# EAGLE library part PUMH9 (library cruz_technologies)
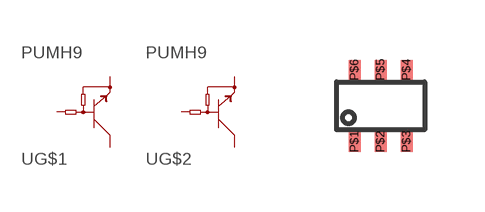
[diagram p11: symbol with the pads of SOT363; footprint SOT363]

Designator prefix -; gates G$1=PUMH9 G$2=PUMH9

## PUMH9  [SOT363]
P$1  G$1:EMMITER
P$2  G$1:BASE
P$3  G$2:COLLECTOR
P$4  G$2:EMMITER
P$5  G$2:BASE
P$6  G$1:COLLECTOR

## Footprint SOT363 (pad centres in mm)
smd 0.3 x 0.5: P$1 -0.65,-0.9; P$2 0,-0.9; P$3 0.65,-0.9; P$4 0.65,0.9; P$5 0,0.9; P$6 -0.65,0.9